# EAGLE library part HX711 (library SIH26113_Maternity_Assist_Belt)
Avia Semiconductor HX711 24-bit ADC for bridge sensors, SOP-16L. Pin map from the HX711 English datasheet Table 1.
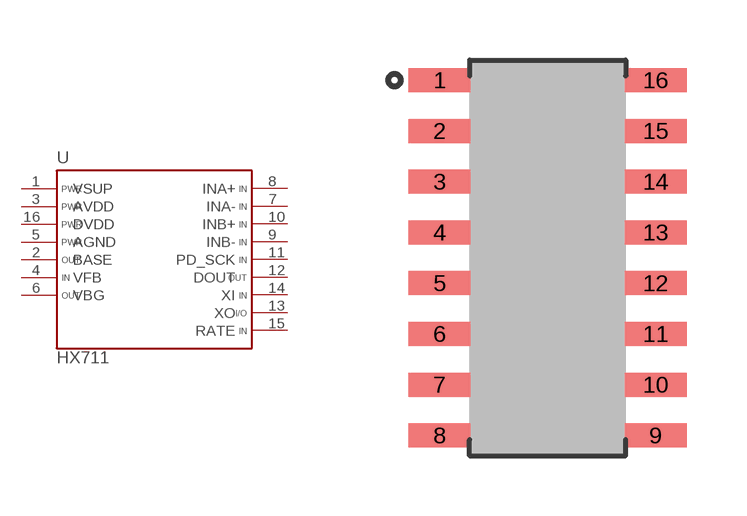
[diagram p6: symbol with the pads of SOP-16-N; footprint SOP-16-N]

Designator prefix U

## HX711  [SOP-16-N]
1  VSUP  pwr
2  BASE  out
3  AVDD  pwr
4  VFB  in
5  AGND  pwr
6  VBG  out
7  INA-  in
8  INA+  in
9  INB-  in
10  INB+  in
11  PD_SCK  in
12  DOUT  out
13  XO
14  XI  in
15  RATE  in
16  DVDD  pwr

## Footprint SOP-16-N (pad centres in mm)
SOP-16L narrow. Body 9.90 x 3.90 mm, lead span 6.00 mm, 1.27 mm pitch (HX711 datasheet Package Dimensions). Lands 1.55 x 0.60 mm at 5.40 mm span (IPC-7351B SOIC127P600X175-16N Nominal).
smd 1.55 x 0.6: 1 -2.7,4.445; 2 -2.7,3.175; 3 -2.7,1.905; 4 -2.7,0.635; 5 -2.7,-0.635; 6 -2.7,-1.905; 7 -2.7,-3.175; 8 -2.7,-4.445; 9 2.7,-4.445; 10 2.7,-3.175; 11 2.7,-1.905; 12 2.7,-0.635; 13 2.7,0.635; 14 2.7,1.905; 15 2.7,3.175; 16 2.7,4.445